# Altium schematic symbol library Microcontroller.SchLib: 14 symbols
Pins are listed as number, name and electrical type; pins without a type are passive.

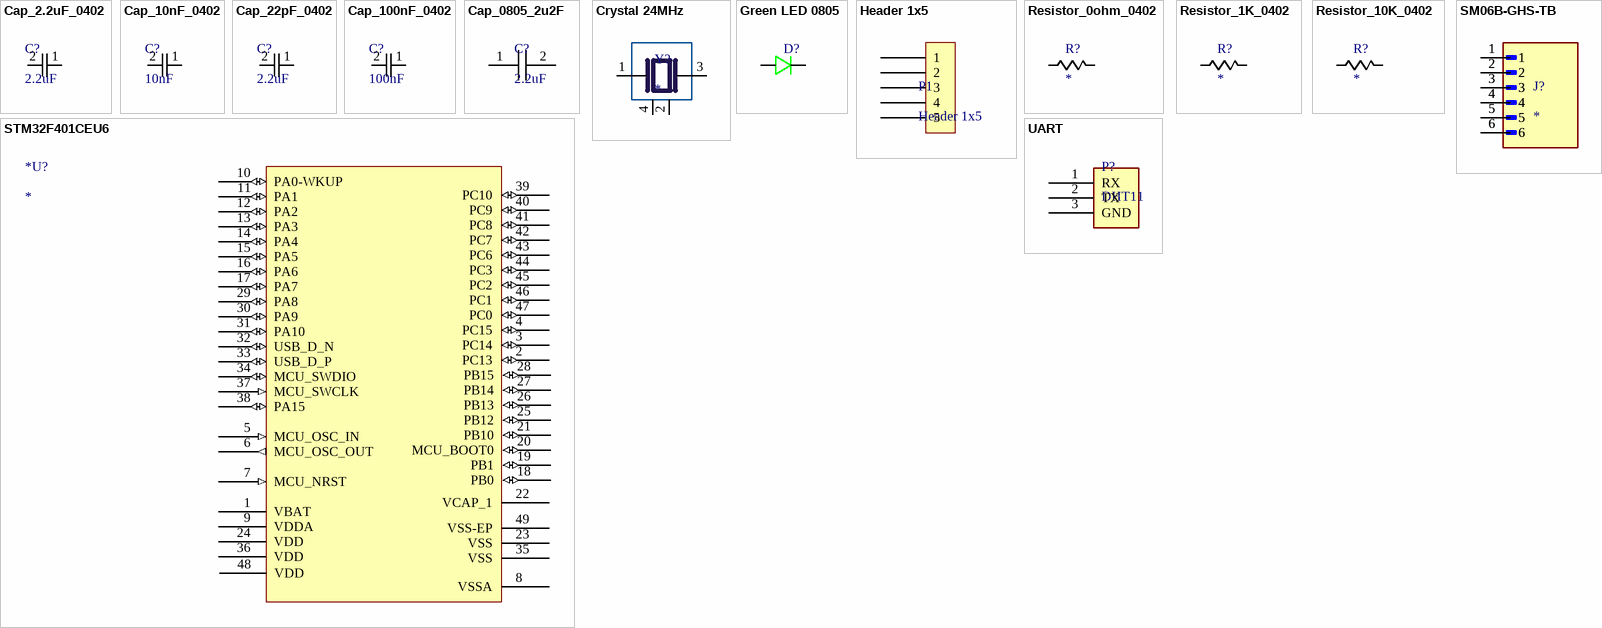
[diagram p0: symbols Cap_2.2uF_0402 to UART]

## Cap_2.2uF_0402
designator C?, comment 2.2uF
CAP CER 2.2uF 16V X5R 0402; Manufacturer: Samsung Electro-Mechanics; Manufacturer Part #: CL05A225KO5NQNC; Supplier: LCSC; Supplier Part#: C170151; ComponentLink1Description: Data Sheet; ComponentLink1URL: https://www.lcsc.com/datasheet/C170151.pdf?spm=wm.sxq.inf.ggs___wm.fly.bg.3.stp&lcsc_vid=T1MKV1cAE1gLBAVfTgIKUgJfTlkPBQBVQlMMBAJURwAxVlNeT1dfVlxVQ1ReXzsOAxUeFF5JWBYZEEoKFBINSQcJGk4%3D
footprint CAPC1005X55N
pins: 1, 2

## Cap_10nF_0402
designator C?, comment 10nF
CAP CER 10nF 50V X7R 0402; Manufacturer: Samsung Electro-Mechanics; Manufacturer Part #: CL05B103KB5NNNC; Supplier: LCSC; Supplier Part#: C15195; ComponentLink1Description: Data Sheet; ComponentLink1URL: https://www.lcsc.com/datasheet/C15195.pdf?spm=wm.sxq.inf.ggs___wm.fly.bg.2.stp&lcsc_vid=T1MKV1cAE1gLBAVfTgIKUgJfTlkPBQBVQlMMBAJURwAxVlNeT1dfVlxVQ1ReXzsOAxUeFF5JWBYZEEoKFBINSQcJGk4%3D
footprint CAPC1005X55N
pins: 1, 2

## Cap_22pF_0402
designator C?, comment 2.2uF
CAP CER 22pF 50V NP0 0402; Manufacturer: YAGEO; Manufacturer Part #: CC0402JRNPO9BN220; Supplier: LCSC; Supplier Part#: C106203; ComponentLink1Description: Data Sheet; ComponentLink1URL: https://www.lcsc.com/datasheet/C106203.pdf?spm=wm.sxq.inf.ggs___wm.fly.bg.0.stp&lcsc_vid=RFgKVFNTRgJeV1xfTlldBAVTQANbU1dQTgBXBVEDElgxVlNeT1ZZU1VQQ1ZZXztW
footprint CAPC1005X55N
pins: 1, 2

## Cap_100nF_0402
designator C?, comment 100nF
CAP CER 100nF 16V X7R 0402; Manufacturer: Samsung Electro-Mechanics; Manufacturer Part #: CL05B104KO5NNNC; Supplier: LCSC; Supplier Part#: C1525; ComponentLink1Description: Data Sheet; ComponentLink1URL: https://www.lcsc.com/datasheet/C1525.pdf?spm=wm.sxq.inf.ggs___wm.fly.bg.1.stp&lcsc_vid=T1MKV1cAE1gLBAVfTgIKUgJfTlkPBQBVQlMMBAJURwAxVlNeT1dfVlxVQ1ReXzsOAxUeFF5JWBYZEEoKFBINSQcJGk4%3D
footprint CAPC1005X55N
pins: 1, 2

## Cap_0805_2u2F
designator C?, comment 2.2uF
CAP CER 2.2uF 16V X7R 0805; Manufacturer: Samsung Electro-Mechanics; Manufacturer Part#: CL21B225KOFNNNE; Supplier: LCSC; Supplier Part#: C28234; ComponentLink1Description: Data Sheet; ComponentLink1URL: https://www.lcsc.com/datasheet/C28234.pdf?spm=wm.sxq.inf.ggs___wm.fly.bg.7.stp&lcsc_vid=RlgPBF0EEVEPX1ZVRAVZVwcHRVJaBVJSTlNXAgBWFlkxVlNeQFFbX1RVRFRaVTsOAxUeFF5JWBYZEEoBGA4JCwFIFA4DSA%3D%3D
footprint CAPC2012X140N
pins: 1, 2

## Crystal 24MHz
designator Y?
YXC Crystal Oscillators XL7EL89CKI-111YLC-24M; Manufacturer Part#: SMD2016-4P; Manufacturer: YXC Crystal Oscillators; Supplier: LCSC; Supplier Part#: C2965580; ComponentLink1Description: Data Sheet; ComponentLink1URL: https://www.lcsc.com/datasheet/C2965580.pdf?spm=wm.sxq.inf.ggs___wm.fly.bg.0.stp&lcsc_vid=EVYPBVRQTlZbUwYCRFgKAVAHE1INAl1VRwJdBFRRElcxVlNeQFNdUFxSTldXXjsOAxUeFF5JWBYZEEoKFBINSQcJGk4dAgUUFAk%3D
footprint XTAL_C7S-24.000-12-3030-X-R
pins: 1, 2 (power), 3 2, 4 (power)

## Green LED 0805
designator D?
LED GREEN 0805 SMD; Manufacturer: NATIONSTAR; Manufacturer Part#: NCD0805G1; Supplier: LCSC; Supplier Part#: C84260; ComponentLink1Description: Data Sheet; ComponentLink1URL: https://www.lcsc.com/datasheet/C84260.pdf?spm=wm.sxq.inf.ggs___wm.fly.bg.0.stp&lcsc_vid=FVIKU1JeEVJYVVVSQVdZUQJSQlYKVAJXRwQLV1VXQlYxVlNeQVdfUV1TQ1ReXzsOAxUeFF5JWBYZEEoKFBINSQcJGk4NBhADEA4cHktXRlVcSQwSGg0%3D
footprint LED_APT2012MGC
pins: A, C

## Header 1x5
designator P1
footprint Header 1x5 male (2.54mm)
pins: 1, 2, 3, 4, 5

## Resistor_0ohm_0402
designator R?
RES 0Ω 0.1W 0402; Manufacturer: PANASONIC; Manufacturer Part #: ERJ2GE0R00X; Supplier: LCSC; Supplier Part #: C242160; ComponentLink1Description: Data Sheet; ComponentLink1URL: https://www.lcsc.com/datasheet/C242160.pdf?spm=wm.sxq.inf.ggs___wm.fly.bg.1.stp&lcsc_vid=T1MKV1cAE1gLBAVfTgIKUgJfTlkPBQBVQlMMBAJURwAxVlNeT1dcVF1TR1RYVzsOAxUeFF5JWBYZEEoKFBINSQcJGk4NBhADEA4cHktXRlhXSQwSGg0%3D
footprint RESC1005X40N
pins: 1, 2

## Resistor_1K_0402
designator R?
1kOhms Â±1% 0.063W, 1/16W Chip Resistor 0402 (1005 Metric) Moisture Resistant Thick Film; Manufacturer: FOJAN; Manufacturer Part #: RC0402FR-071KL; Supplier: LCSC; Supplier Part #: C106235; ComponentLink1Description: Data Sheet; ComponentLink1URL: https://www.lcsc.com/datasheet/C106235.pdf?spm=wm.sxq.inf.ggs___wm.fly.bg.2.stp&lcsc_vid=T1MKV1cAE1gLBAVfTgIKUgJfTlkPBQBVQlMMBAJURwAxVlNeT1dcVlJVRFlZVzsOAxUeFF5JWBYZEEoKFBINSQcJGk4NBhADEA4cHktXRlhXSQwSGg0%3D
footprint RESC1005X40N
pins: 1, 2

## Resistor_10K_0402
designator R?
RES 10kΩ ±1% 62.5mW 0402; Manufacturer: YAGEO; Manufacturer Part #: RC0402FR-0710KL; Supplier: LCSC; Supplier Part #: C60490; ComponentLink1Description: Data Sheet; ComponentLink1URL: https://www.lcsc.com/datasheet/C60490.pdf?spm=wm.sxq.inf.ggs___wm.fly.bg.1.stp&lcsc_vid=T1MKV1cAE1gLBAVfTgIKUgJfTlkPBQBVQlMMBAJURwAxVlNeT1dcVVBSRVlfUDsOAxUeFF5JWBYZEEoKFBINSQcJGk4NBhADEA4cHktXRlhXSQwSGg0%3D
footprint RESC1005X40N
pins: 1, 2

## SM06B-GHS-TB
designator J?
Connector Header Surface Mount, Right Angle 6 position 0.049 (1.25mm); Manufacturer: JST; Manufacturer Part#: SM06B-GHS-TB(LF)(SN); Supplier: LCSC; Supplier Part#: C133065; ComponentLink1Description: Data Sheet; ComponentLink1URL: https://www.lcsc.com/datasheet/C133065.pdf?spm=wm.sxq.inf.ggs___wm.fly.bg.2.stp&lcsc_vid=RlgPBF0EEVEPX1ZVRAVZVwcHRVJaBVJSTlNXAgBWFlkxVlNeQFFbXlFTQ1lWVDsOAxUeFF5JWBYZEEoKFBINSQcJGk4NBhADEA4cHktSTlRADxALGw%3D%3D
footprint JST_SM06B-GHS-TB
pins: 1, 1, 2, 2, 3, 3, 4, 4, 5, 5, 6, 6

## STM32F401CEU6
designator *U?
ARM Cortex-M4 32b MCU+FPU,105DMIPS,512KB Flash/96KB RAM, 11 TIMs, 1 ADC, 11 comm. interfaces; Manufacturer: ST; Manufacturer Part#: STM32F401CEU6; Supplier: LCSC; Supplier Part#: C60420; ComponentLink1Description: Data Sheet; ComponentLink1URL: https://www.lcsc.com/datasheet/C60420.pdf?spm=wm.sxq.inf.ggs___wm.fly.bg.0.stp&lcsc_vid=E1QPAlFSFlQNAwEAEQJdBlJfE1hWVlFUQlIPUgAERAIxVlNeQFNcV1NSTlNaUDsOAxUeFF5JWBYZEEoKFBINSQcJGk4%3D
footprint UFQFPN-48_7x7mm_P0.5mm (QFN, 48-Leads, Body 7.00x7.00mm, Pitch 0.50mm, Thermal Pad 5.60x5.60mm, IPC Medium Density)
pins: 1 VBAT (power), 2 PC13 (io), 3 PC14 (io), 4 PC15 (io), 5 MCU_OSC_IN (in), 6 MCU_OSC_OUT (out), 7 MCU_NRST (in), 8 VSSA (power), 9 VDDA (power), 10 PA0-WKUP (io), 11 PA1 (io), 12 PA2 (io), 13 PA3 (io), 14 PA4 (io), 15 PA5 (io), 16 PA6 (io), 17 PA7 (io), 18 PB0 (io), 19 PB1 (io), 20 MCU_BOOT0 (io), 21 PB10 (io), 22 VCAP_1 (power), 23 VSS (power), 24 VDD (power), 25 PB12 (io), 26 PB13 (io), 27 PB14 (io), 28 PB15 (io), 29 PA8 (io), 30 PA9 (io), 31 PA10 (io), 32 USB_D_N (io), 33 USB_D_P (io), 34 MCU_SWDIO (io), 35 VSS (power), 36 VDD (power), 37 MCU_SWCLK (in), 38 PA15 (io), 39 PC10 (io), 40 PC9 (io), 41 PC8 (io), 42 PC7 (io), 43 PC6 (io), 44 PC3 (io), 45 PC2 (io), 46 PC1 (io), 47 PC0 (io), 48 VDD (power), 49 VSS-EP (power)

## UART
designator P?, comment DHT11
ComponentLink1Description: Link
footprint HEADER 1x3 MALE (2.54mm)
pins: 1 RX, 2 TX, 3 GND